# EAGLE library part M20-7920642R (library KVB-connectors)
12 Position Receptacle Connector 0.100" (2.54mm) Surface Mount Right Angle Gold
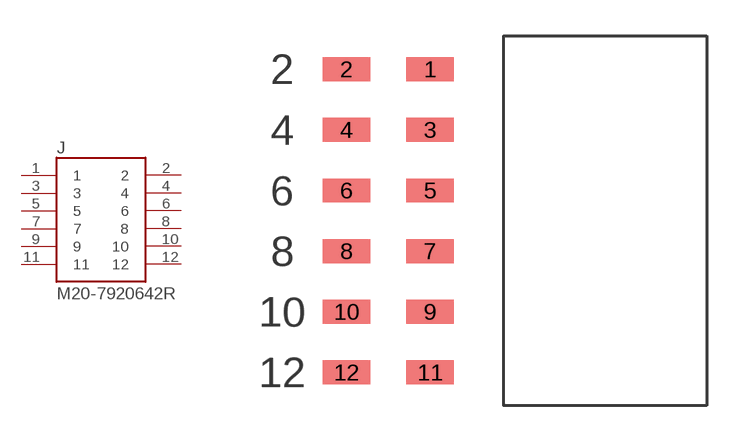
[diagram p24: symbol with the pads of M20-7920642R; footprint M20-7920642R]

Designator prefix J

## M20-7920642R (MAN-PART_NUM: M20-7920642R; MANUFACTURER: Harwin Inc.)  [M20-7920642R]
1  1  pas
2  2  pas
3  3  pas
4  4  pas
5  5  pas
6  6  pas
7  7  pas
8  8  pas
9  9  pas
10  10  pas
11  11  pas
12  12  pas

## Footprint M20-7920642R (pad centres in mm)
smd 2 x 1: 1 -11.585,6.35; 2 -15.085,6.35; 3 -11.585,3.81; 4 -15.085,3.81; 5 -11.585,1.27; 6 -15.085,1.27; 7 -11.585,-1.27; 8 -15.085,-1.27; 9 -11.585,-3.81; 10 -15.085,-3.81; 11 -11.585,-6.35; 12 -15.085,-6.35